# Altium schematic symbol library port5.SchLib: 1 symbol
Pins are listed as number, name and electrical type; pins without a type are passive.

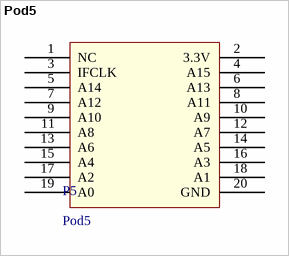
[diagram p0: symbol Pod5]

## Pod5
designator P5
footprint Pin Header 20x2
pins: 1 NC, 2 3.3V, 3 IFCLK, 4 A15, 5 A14, 6 A13, 7 A12, 8 A11, 9 A10, 10 A9, 11 A8, 12 A7, 13 A6, 14 A5, 15 A4, 16 A3, 17 A2, 18 A1, 19 A0, 20 GND